# Altium footprint library SOT343.PcbLib: 1 footprints
Each footprint in its own frame and in the unit in brackets; x right, y up, seen from the top. Pads: shape width x height; smd on the part's side, far side on the other; paste and mask are expansions set on the pad; w line width, h text height; cw(c..) or ccw(c..) is an arc to the next point about the centre after c.
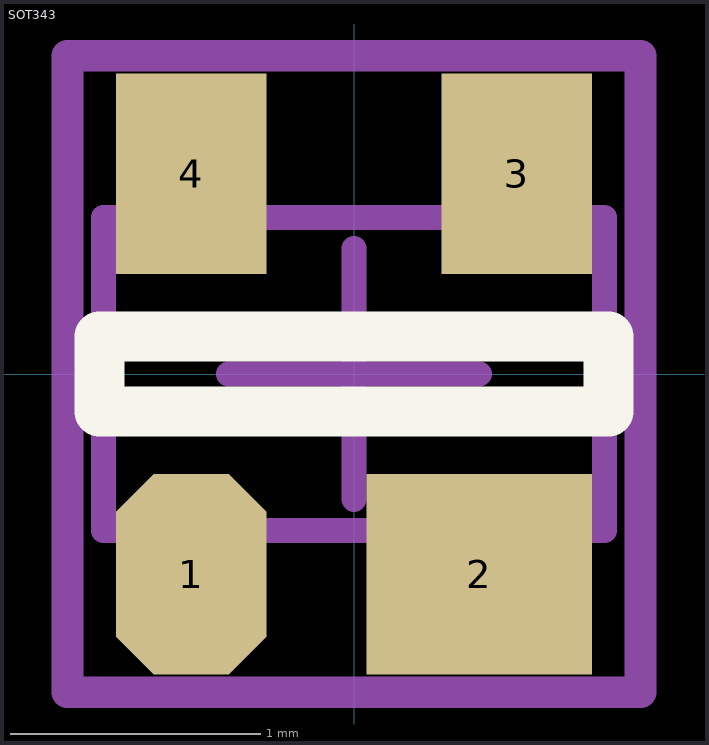
[diagram p0: the footprint, top view; thin cyan lines are the x and y axes]

## SOT343 [mm]
pads (4):
  oct 0.6x0.8 smd: 1(-0.65,-0.8)
  rect 0.9x0.8 smd: 2(0.5,-0.8)
  rect 0.6x0.8 smd: 3(0.65,0.8) 4(-0.65,0.8)
Top Overlay:
  lines w0.2: -1.016,-0.15 -1.016,0.15 1.016,0.15 1.016,-0.15 -1.016,-0.15
Mechanical 13:
  lines w0.1: -1,-0.625 -1,0.625 1,0.625 1,-0.625 -1,-0.625
Mechanical 15:
  lines w0.1: -0.5,0 0.5,0 ; 0,-0.5 0,0.5
  lines w0.127: -1.143,-1.27 1.143,-1.27 1.143,1.27 -1.143,1.27 -1.143,-1.27
Mechanical 17:
  text "'.Designator'" at -1.27,-0.254 h0.51
Mechanical 19:
  text "'.Comment'" at -1.27,-0.254 h0.51
3D body "User Library-sot343.step": height 1, standoff 0, extent -1.05,-1.15 1.05,1.15